# Altium schematic symbol library PowerInductors.SCHLIB: 35 symbols (part 1 of 2)
Pins are listed as number, name and electrical type; pins without a type are passive.

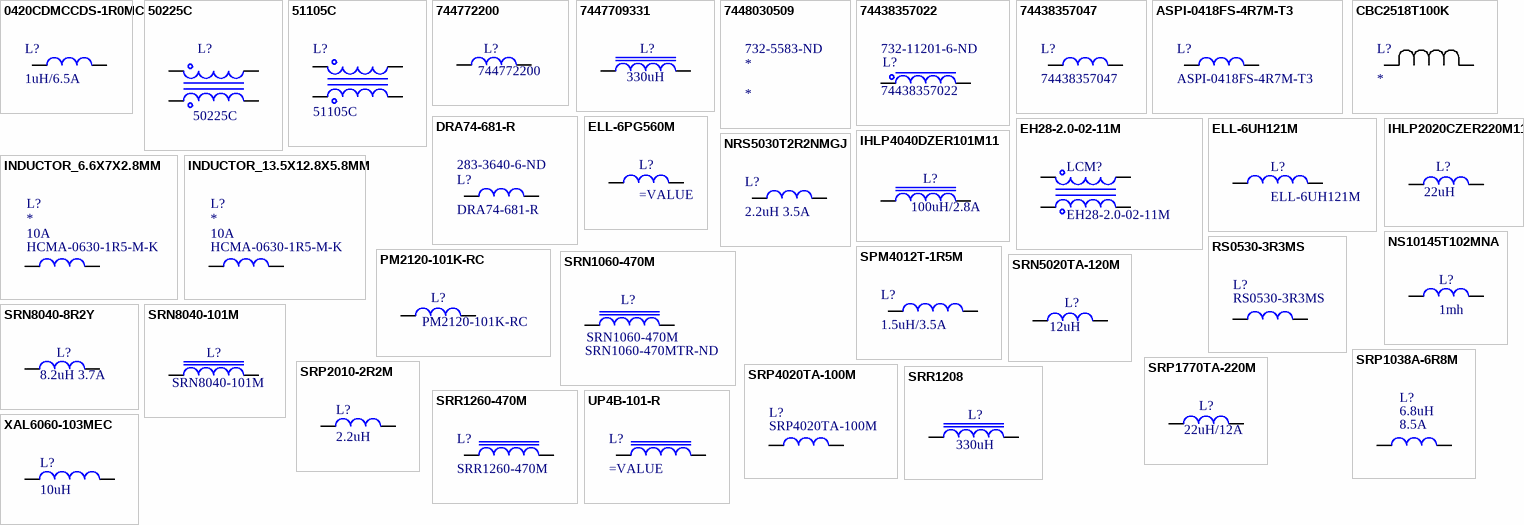
[diagram p0: symbols 0420CDMCCDS-1R0MC to XAL6060-103MEC]

## 0420CDMCCDS-1R0MC
designator L?, comment 1uH/6.5A
FIXED IND 1UH 6.5A 27 MOHM; Manufacturer 1: Sumida; Manufacturer Part Number 1: 0420CDMCCDS-1R0MC; Manufacturer: Bourns; Manufacturer Part Number: SRN1060-470M; Core Material: Metal; Saturation Current: 8A; Shielding: Shielded; DC Resistance (DCR): 27mR; Test Frequency: 100kHz; Tolerance: 20%; Material: Resin; Self Resonant Frequency: 6MHz; Max DC Current: 2.5A; Resistance: 110MR; Supplier 1: Digi-Key; RoHS: Yes; Category: Fixed Inductors; Stock 1: 23794; Pricing 1: 1=0,86000, 10=0,75700, 100=0,54050, 500=0,45402, 1000=0,36754 (USD); Mount: Surface Mount; Case/Package: Nonstandard; Min Operating Temperature: -55°C; Max Operating Temperature: 125°C; Packaging: Tape and Reel; Inductance: 1uH; Current Rating: 6.5A; Length: 0.165inch; Width: 0.165inch; Height - Seated (Max): 0.079inch; ComponentLink1URL: http://products.sumida.com/products/pdf/0420CDMCCDS1.pdf?src-supplier=Digi-Key; ComponentLink1Description: http://products.sumida.com/products/pdf/0420CDMCCDS1.pdf?src-supplier=Digi-Key; Value: 1uH/6.5A; Supplier Part Number 1: 308-2406-1-ND; Number of Pins: 2; Resistor Type: Wirewound; Termination: SMD/SMT; DC Current: 2.5A; RMS Current (Irms): 2.5A; Inductance Tolerance: 20%; Package Quantity: 600; Height: 6mm; Depth: 10.1mm; Radiation Hardening: No; Military Standard: Not; REACH SVHC: No SVHC; ComponentLink2URL: https://datasheet.ciiva.com/13142/srn1060-13142172.pdf?src-supplier=Mouser; ComponentLink2Description: https://datasheet.ciiva.com/13142/srn1060-13142172.pdf?src-supplier=Mouser; ComponentLink3URL: https://datasheet.ciiva.com/46437/1732049-46437532.pdf?src-supplier=Element14; ComponentLink3Description: https://datasheet.ciiva.com/46437/1732049-46437532.pdf?src-supplier=Element14; ComponentLink4URL: https://datasheet.ciiva.com/6700/srn1060-6700639.pdf?src-supplier=Digi-Key; ComponentLink4Description: https://datasheet.ciiva.com/6700/srn1060-6700639.pdf?src-supplier=Digi-Key; ComponentLink5URL: https://datasheet.ciiva.com/17112/70255691-17112455.pdf?src-supplier=Allied+Electronics; ComponentLink5Description: https://datasheet.ciiva.com/17112/70255691-17112455.pdf?src-supplier=Allied+Electronics; ComponentLink6URL: https://datasheet.ciiva.com/22715/1732049-22715674.pdf?src-supplier=Element14; ComponentLink6Description: https://datasheet.ciiva.com/22715/1732049-22715674.pdf?src-supplier=Element14; ComponentLink7URL: https://datasheet.ciiva.com/6700/srn1060-6700637.pdf?src-supplier=Digi-Key; ComponentLink7Description: https://datasheet.ciiva.com/6700/srn1060-6700637.pdf?src-supplier=Digi-Key
footprint 0420CDMCCDS
pins: 1, 2

## 50225C
designator L?
CHOKE, CM, 2.2MH, +50%/-30%, 0.5A; Product Range:5000 Series; SVHC:No SVHC (17-Dec-2015); Inductance:2.2mH; Impedance:-; Rated Current:500mA; Common Mode Filter Case:7mm x 5.9mm x 3.6mm; DC Current Max:500mA; DC Current Rating:500mA; DC Resistance Max:0.4ohm; Inductance Tolerance:-30% to +50%; Inductor Case Style:SMD; No. of Pins:4; Manufacturer: Murata; Number of Lines: 2; Voltage Rating: 500V; Tolerance: 50%; Max Current Rating: 500mA; DC Resistance (DCR): 400mR; Test Frequency: 100kHz; Supplier 1: Digi-Key; Manufacturer Part Number: 50225C; Stock 1: 5521; Pricing 1: 1 = 1,18000, 10 = 1,17000, 25 = 1,15000, 50 = 1,06000, 100 = 1,00000, 250 = 0,94000, 500 = 0,92000 (USD); RoHS: Yes; Mount: Surface Mount; Number of Pins: 4; Min Operating Temperature: -40°C; Max Operating Temperature: 85°C; Package Quantity: 1; Packaging: Tape and Reel; Inductance: 2.2mH; Max DC Current: 500mA; Termination: SMD/SMT; DC Current: 500mA; Current Rating: 500mA; Length: 0.366inch; Height: 3.6mm; Width: 0.232inch; Depth: 5.9mm; Radiation Hardening: No; REACH SVHC: No SVHC; Military Standard: Not; Lead Free: Lead Free; ComponentLink1URL: https://datasheet.ciiva.com/14635/0900766b80ef282e-14635096.pdf?src-supplier=Allied+Electronics; ComponentLink1Description: https://datasheet.ciiva.com/14635/0900766b80ef282e-14635096.pdf?src-supplier=Allied+Electronics; ComponentLink2URL: https://datasheet.ciiva.com/11799/0900766b80ef282e-11799738.pdf?src-supplier=RSComponents; ComponentLink2Description: https://datasheet.ciiva.com/11799/0900766b80ef282e-11799738.pdf?src-supplier=RSComponents; ComponentLink3URL: https://datasheet.ciiva.com/17279/kmp-5000c-17279461.pdf?src-supplier=Avnet+Europe; ComponentLink3Description: https://datasheet.ciiva.com/17279/kmp-5000c-17279461.pdf?src-supplier=Avnet+Europe; ComponentLink4URL: https://datasheet.ciiva.com/6214/kmp-5000c-6214678.pdf?src-supplier=Digi-Key; ComponentLink4Description: https://datasheet.ciiva.com/6214/kmp-5000c-6214678.pdf?src-supplier=Digi-Key; ComponentLink5URL: https://datasheet.ciiva.com/46390/1484733-46390742.pdf?src-supplier=Element14; ComponentLink5Description: https://datasheet.ciiva.com/46390/1484733-46390742.pdf?src-supplier=Element14; ComponentLink6URL: https://datasheet.ciiva.com/8035/1484733-8035623.pdf?src-supplier=Element14; ComponentLink6Description: https://datasheet.ciiva.com/8035/1484733-8035623.pdf?src-supplier=Element14; ComponentLink7URL: https://datasheet.ciiva.com/1127/1484733-1127192.pdf?src-supplier=Element14; ComponentLink7Description: https://datasheet.ciiva.com/1127/1484733-1127192.pdf?src-supplier=Element14; ComponentLink8URL: https://datasheet.ciiva.com/6214/kmp-5000c-6214681.pdf?src-supplier=Digi-Key; ComponentLink8Description: https://datasheet.ciiva.com/6214/kmp-5000c-6214681.pdf?src-supplier=Digi-Key; ComponentLink9URL: https://datasheet.ciiva.com/8510/kmp-5000c-8510573.pdf?src-supplier=Avnet; ComponentLink9Description: https://datasheet.ciiva.com/8510/kmp-5000c-8510573.pdf?src-supplier=Avnet; Supplier Part Number 1: 811-1184-1-ND
footprint 50225C
pins: 1, 2, 3, 4

## 51105C
designator L?
Common Mode Chokes Dual 1000uH 3.3A 0.038Ohm DCR Thru-Hole Tray; Manufacturer: Murata Power Solutions; DC Resistance (DCR): 38mΩ; Value: 1mH; Lead/Base Style: Pin; Number of Circuits: 2; Shielding: Unshielded; Supplier: DigiKey; Supplier Part Number: 811-1253-ND; Manufacturer Part Number: 51105C; RoHS: Compliant; Category: Fixed Inductors; Stock: 617; Pricing: 1=2,75, 25=2,67, 50=2,32, 100=2,22, 250=2,17, 500=2,1, 1000=2,025 (USD); China RoHS: Compliant; Contact Plating: Tin; Current Rating: 3.3A; DC Current: 3.3A; Depth: 10mm; Height: 24mm; Lead Pitch: 12.7mm; Length: 21mm; Lifecycle Status: Production; Max Current Rating: 3.3A; Max DC Current: 3.3A; Max Operating Temperature: 125°C; Military Standard: Not; Min Operating Temperature: -40°C; Mounting Technology: Radial, Through Hole; Number of Lines: 2; Pins: 4; Number of Terminals: 4; Orientation: Vertical; Radiation Hardening: No; REACH SVHC: Yes; Schedule B: 8504500000, 8504500000|8504500000|8504500000|8504500000|8504500000; Termination: Radial; Width: 10mm; ComponentLink1URL: https://datasheet.octopart.com:443/51105C-Murata-datasheet-180805887.pdf?src-supplier=IHS; ComponentLink1Description: https://datasheet.octopart.com:443/51105C-Murata-datasheet-180805887.pdf?src-supplier=IHS; ComponentLink2URL: https://datasheet.octopart.com:443/51105C-Murata-Power-Solutions-datasheet-8472960.pdf?src-supplier=Farnell; ComponentLink2Description: https://datasheet.octopart.com:443/51105C-Murata-Power-Solutions-datasheet-8472960.pdf?src-supplier=Farnell; ComponentLink3URL: https://datasheet.octopart.com:443/51105C-Murata-Power-Solutions-datasheet-13692941.pdf?src-supplier=Newark; ComponentLink3Description: https://datasheet.octopart.com:443/51105C-Murata-Power-Solutions-datasheet-13692941.pdf?src-supplier=Newark; ComponentLink4URL: http://sigma.octopart.com:80/reach_statement/Murata-company-16.pdf?src-supplier=Compliance+Statements; ComponentLink4Description: http://sigma.octopart.com:80/reach_statement/Murata-company-16.pdf?src-supplier=Compliance+Statements
footprint MURATA_51105C
pins: 1, 2, 3, 4

## 744772200
designator L?
FIXED IND 20UH 2.6A 50 MOHM TH; Manufacturer: Wurth Electronics Inc.; Type: Wirewound; Material - Core: Ferrite; Tolerance: ±10%; Shielding: Unshielded; DC Resistance (DCR): 50 mOhm Max; Supplier 1: Digi-Key; Manufacturer Part Number: 744772200; RoHS: RoHS Compliant; Category: Inductors, Coils, Chokes; Stock 1: 217; Pricing 1: 1=0.96, 10=0.909, 50=0.847, 140=0.753, 280=0.69 (USD); Packaging: Tray; Part Status: Active; Q @ Freq: -; Ratings: -; Operating Temperature: -40°C ~ 125°C; Mounting Type: Through Hole; Package / Case: Radial; Supplier Device Package: -; Size / Dimension: 0.307" Dia (7.80mm); Height - Seated (Max): 0.394" (10.00mm); ComponentLink1URL: http://katalog.we-online.de/pbs/datasheet/744772200.pdf; ComponentLink1Description: http://katalog.we-online.de/pbs/datasheet/744772200.pdf; Value: 744772200; Supplier Part Number 1: 732-3765-ND
pins: 1, 2

## 7447709331
designator L?, comment 330uH
FIXED IND 330UH 1.5A 430 MOHM; Manufacturer: Wurth Electronics Inc; Manufacturer Part Number: 7447709331; Type: Wirewound; Material - Core: Ferrite; Inductance: 330µH; Tolerance: ±20%; Current - Saturation: 1.7A; Shielding: Shielded; DC Resistance (DCR): 430 mOhm Max; Frequency - Self Resonant: 2MHz; Frequency - Test: 1kHz; Supplier 1: Digi-Key; RoHS: RoHS Compliant; Category: Inductors, Coils, Chokes; Stock 1: 1493; Pricing 1: 1=3.1, 10=3, 50=2.8, 100=2.6 (USD); Packaging: Cut Tape (CT); Part Status: Active; Current Rating: 1.5A; Q @ Freq: -; Ratings: -; Operating Temperature: -40°C ~ 125°C; Mounting Type: Surface Mount; Package / Case: Nonstandard; Size / Dimension: 0.472" L x 0.472" W (12.00mm x 12.00mm); Height - Seated (Max): 0.394" (10.00mm); ComponentLink1URL: http://katalog.we-online.de/pbs/datasheet/7447709331.pdf; ComponentLink1Description: http://katalog.we-online.de/pbs/datasheet/7447709331.pdf; Supplier Part Number 1: 732-1698-1-ND; Value: 330uH
footprint 7447709331 (0.472" L x 0.472" A (12.00 mm x 12.00 mm) H 0.394" (10.00 mm))
pins: 1, 2

## 7448030509
designator *  Supplier Part Number 1: 732-5583-ND
COMMON MODE CHOKE 9MH 5A 2LN TH; Manufacturer: Wurth Electronics Inc.; Manufacturer Part Number: 7448030509; Filter Type: Power Line; Number of Lines: 2; Inductance @ Frequency: 9mH @ 10kHz; DC Resistance (DCR) (Max): 28 mOhm; Voltage Rating - AC: 250V; Supplier 1: Digi-Key; RoHS: RoHS Compliant; Category: Filters; Stock 1: 353; Pricing 1: 1=12.1, 50=10.64, 250=9.07204, 540=8.17602 (USD); Packaging: Bulk; Part Status: Active; Impedance @ Frequency: -; Current Rating (Max): 5A; Voltage Rating - DC: -; Operating Temperature: -40°C ~ 125°C; Ratings: -; Approvals: -; Features: -; Mounting Type: Through Hole; Size / Dimension: 0.866" L x 0.532" W (22.00mm x 13.50mm); Height (Max): 0.984" (25.00mm); Package / Case: Vertical, 4 PC Pin; ComponentLink1URL: http://katalog.we-online.de/pbs/datasheet/7448030509.pdf; ComponentLink1Description: http://katalog.we-online.de/pbs/datasheet/7448030509.pdf

## 74438357022
designator L?  Supplier Part Number 1: 732-11201-6-ND
SMD POWER INDUCTOR 2.2µH Shielded Molded Inductor 5.2A 26mOhm; Manufacturer: Wurth Electronics; Core Material: Metal,Composite; Inductance: 2.2uH; Tolerance: 20%; Saturation Current: 7A; DC Resistance (DCR): 26mR; Self Resonant Frequency: 35MHz; Test Frequency: 100kHz; Supplier 1: Digi-Key; Manufacturer Part Number: 74438357022; RoHS: Yes; Category: Fixed Inductors; Stock 1: 67028; Pricing 1: 1=1,69000, 10=1,60700, 50=1,54800, 100=1,40700 (USD); Mount: Surface Mount; Case/Package: Nonstandard; Min Operating Temperature: -40°C; Max Operating Temperature: 125°C; Packaging: Cut Tape; Current Rating: 5.2A; Shielding: Shielded; RoHS Compliant: Yes; ComponentLink1URL: http://www.farnell.com/datasheets/2579569.pdf?src-supplier=Farnell; ComponentLink1Description: http://www.farnell.com/datasheets/2579569.pdf?src-supplier=Farnell; ComponentLink2URL: http://www.farnell.com/datasheets/2579569.pdf?src-supplier=Element14; ComponentLink2Description: http://www.farnell.com/datasheets/2579569.pdf?src-supplier=Element14; ComponentLink3URL: http://www.farnell.com/datasheets/2579569.pdf?src-supplier=Newark; ComponentLink3Description: http://www.farnell.com/datasheets/2579569.pdf?src-supplier=Newark; ComponentLink4URL: https://katalog.we-online.de/pbs/datasheet/74438357022.pdf?src-supplier=Digi-Key; ComponentLink4Description: https://katalog.we-online.de/pbs/datasheet/74438357022.pdf?src-supplier=Digi-Key
footprint WURTH_74438357022 (FIXED IND 2.2UH 5.2A 26 MOHM SMD-0.161" L x 0.161" W (4.10mm x 4.10mm))
pins: 1, 2

## 74438357047
designator L?
Fixed Ind 4.7UH 3.9A 44 Mohm SMD; Manufacturer: Wurth Electronics; Core Material: Metal,Composite; Tolerance: 20%; Saturation Current: 6.4A; Shielding: Shielded; DC Resistance (DCR): 44mR; Self Resonant Frequency: 24MHz; Test Frequency: 100kHz; Supplier 1: Digi-Key; Manufacturer Part Number: 74438357047; RoHS: No; Stock 1: 1809; Pricing 1: 1=1,58000, 10=1,50700, 50=1,45200, 100=1,32000 (USD); Mount: Surface Mount; Case/Package: Nonstandard; Min Operating Temperature: -40°C; Max Operating Temperature: 125°C; Packaging: Cut Tape; Inductance: 4.7uH; Current Rating: 3.9A; ComponentLink1URL: http://www.farnell.com/datasheets/2579570.pdf?src-supplier=Farnell; ComponentLink1Description: http://www.farnell.com/datasheets/2579570.pdf?src-supplier=Farnell; ComponentLink2URL: https://katalog.we-online.de/pbs/datasheet/74438357047.pdf?src-supplier=Digi-Key; ComponentLink2Description: https://katalog.we-online.de/pbs/datasheet/74438357047.pdf?src-supplier=Digi-Key; ComponentLink3URL: http://www.farnell.com/datasheets/2579570.pdf?src-supplier=Newark; ComponentLink3Description: http://www.farnell.com/datasheets/2579570.pdf?src-supplier=Newark; Value: 74438357047; Supplier Part Number 1: 732-11202-1-ND
footprint 74438357047
pins: 1, 2

## ASPI-0418FS-4R7M-T3
designator L?
FIXED IND 4.7UH 1.9A 70 MOHM SMD; Manufacturer: Abracon LLC; Type: Wirewound; Material - Core: Ferrite; Inductance: 4.7µH; Tolerance: ±20%; Current - Saturation: 2A; Shielding: Shielded; DC Resistance (DCR): 70 mOhm; Supplier 1: Digi-Key; Manufacturer Part Number: ASPI-0418FS-4R7M-T3; RoHS: RoHS Compliant; Category: Inductors, Coils, Chokes; Stock 1: 5105; Pricing 1: 1=0.54, 10=0.47, 25=0.4368, 50=0.3696, 100=0.336, 250=0.31584, 500=0.28224, 1000=0.22848 (USD); Packaging: Cut Tape (CT); Part Status: Active; Current Rating: 1.9A; Q @ Freq: -; Frequency - Self Resonant: -; Ratings: -; Operating Temperature: -25°C ~ 120°C; Mounting Type: Surface Mount; Package / Case: Nonstandard; Supplier Device Package: -; Size / Dimension: 0.157" L x 0.157" W (4.00mm x 4.00mm); Height - Seated (Max): 0.071" (1.80mm); ComponentLink1URL: http://www.abracon.com/Magnetics/new/ASPI-0418FS.pdf; ComponentLink1Description: http://www.abracon.com/Magnetics/new/ASPI-0418FS.pdf; Value: ASPI-0418FS-4R7M-T3; Supplier Part Number 1: 535-10761-1-ND
footprint ASPI-0418
pins: 1, 2

## CBC2518T100K
designator L?
Imported; Manufacturer_Part_Number: CBC2518T100K; Vendor: TAIYO YUDEN; Built_By: EMA_UL_Team; Type: DEV; C: Copyright (C) 2015 Accelerated Designs. All rights reserved; RefDes: RefDes; Value: Value
footprint IND_TAIYO_CBC251
pins: 1, 2

## DRA74-681-R
designator L?  Supplier Part Number 1: 283-3640-6-ND
Fixed Inductors 680uH 0.352A 2.86ohms; Manufacturer: Eaton Cooper; Core Material: Ferrite; Tolerance: 20%; Shielding: Shielded; Saturation Current: 352mA; Current Rating: 315mA; DC Resistance (DCR): 2.86R; Test Frequency: 100kHz; Current: 386mA; Supplier 1: Digi-Key; Manufacturer Part Number: DRA74-681-R; Stock 1: 3186; Pricing 1: 1=2.28, 10=2.105, 100=1.4732, 500=1.1926 (USD); Mount: Surface Mount; Case/Package: Nonstandard; Weight: 0.016oz; Min Operating Temperature: -40°C; Max Operating Temperature: 165°C; Packaging: Tape and Reel; Package Quantity: 1100; Inductance: 680uh; Inductance Tolerance: 20%; Max DC Current: 352mA; Termination: SMD/SMT; Composition: Wirewound; Self Resonant Frequency: 100kHz; RMS Current (Irms): 315mA; DC Current: 315mA; Military Standard: Not; Length: 7.6mm; Height: 4.35mm; Width: 7.6mm; Height - Seated (Max): 0.171inch; Depth: 7.6mm; REACH SVHC: No SVHC; ComponentLink1URL: https://datasheet.ciiva.com/6694/9190a0eb-f996-4faf-a4d6-7b76f954f32d-6694120.pdf; ComponentLink1Description: https://datasheet.ciiva.com/6694/9190a0eb-f996-4faf-a4d6-7b76f954f32d-6694120.pdf; ComponentLink2URL: https://datasheet.ciiva.com/6694/9190a0eb-f996-4faf-a4d6-7b76f954f32d-6694122.pdf; ComponentLink2Description: https://datasheet.ciiva.com/6694/9190a0eb-f996-4faf-a4d6-7b76f954f32d-6694122.pdf; ComponentLink3URL: https://datasheet.ciiva.com/8005/661909-8005002.pdf; ComponentLink3Description: https://datasheet.ciiva.com/8005/661909-8005002.pdf; ComponentLink4URL: https://datasheet.ciiva.com/6694/9190a0eb-f996-4faf-a4d6-7b76f954f32d-6694124.pdf; ComponentLink4Description: https://datasheet.ciiva.com/6694/9190a0eb-f996-4faf-a4d6-7b76f954f32d-6694124.pdf; Value: DRA74-681-R
footprint DRA74-681-R
pins: 1, 2

## EH28-2.0-02-11M
designator LCM?
COMMON MODE CHOKE 11MH 2A 2LN TH; Manufacturer: Schaffner EMC Inc.; Filter Type: Power Line; Number of Lines: 2; Inductance @ Frequency: 11mH @ 10kHz; DC Resistance (DCR) (Max): 162 mOhm (Typ); Voltage Rating - AC: 250V; Supplier 1: Digi-Key; Manufacturer Part Number: EH28-2.0-02-11M; RoHS: RoHS Compliant; Category: Filters; Stock 1: 3; Pricing 1: 1=3.16, 10=2.896, 25=2.6324, 50=2.2114, 100=1.8954, 250=1.79012, 500=1.6848, 1000=1.5795, 5000=1.5561 (USD); Packaging: Tube; Part Status: Active; Impedance @ Frequency: -; Current Rating (Max): 2A; Voltage Rating - DC: -; Operating Temperature: -25°C ~ 100°C; Ratings: -; Approvals: -; Features: -; Mounting Type: Through Hole; Size / Dimension: 1.102" L x 1.102" W (28.00mm x 28.00mm); Height (Max): 0.941" (23.90mm); Package / Case: Horizontal, 4 PC Pin; ComponentLink1URL: http://www.schaffner.com/fileadmin/media/products/pim/EV_EH%20series.pdf; ComponentLink1Description: http://www.schaffner.com/fileadmin/media/products/pim/EV_EH%20series.pdf; Value: EH28-2.0-02-11M; Supplier Part Number 1: 817-1018-ND
footprint EH28-2.0-02-11M
pins: 1, 2, 3, 4

## ELL-6PG560M
designator L?
PANASONIC   ELL6PG560M   CHOKE, POWER, 6X6X2MM, 56UH; Manufacturer Part Number: ELL-6PG560M; Inductance Tolerance: 20%; Self Resonant Frequency: 100kHz; Shielding: Shielded; Current Rating: 550mA; Saturation Current: 500mA; DC Resistance (DCR): 520mR; Supplier 1: Digi-Key; Manufacturer: Panasonic; Stock 1: 1393; Pricing 1: 1=0.82, 10=0.718, 100=0.5132, 500=0.4311 (USD); Mount: Surface Mount; Case/Package: 2424; Number of Pins: 2; Packaging: Tape and Reel; Tolerance: 20%; Package Quantity: 1000; Inductance: 56uh; Max DC Current: 500mA; Termination: SMD/SMT; Test Frequency: 100kHz; Composition: Wirewound; DC Current: 550mA; Military Standard: Not; RMS Current (Irms): 550mA; Length: 6mm; Height: 2mm; Width: 6mm; Height - Seated (Max): 0.079inch; Depth: 6.3mm; Radiation Hardening: No; REACH SVHC: No SVHC; ComponentLink1URL: https://datasheet.ciiva.com/8506/agm0000ce13-8506853.pdf; ComponentLink1Description: https://datasheet.ciiva.com/8506/agm0000ce13-8506853.pdf; ComponentLink2URL: https://datasheet.ciiva.com/6041/391793-6041595.pdf; ComponentLink2Description: https://datasheet.ciiva.com/6041/391793-6041595.pdf; ComponentLink3URL: https://datasheet.ciiva.com/22702/391793-22702972.pdf; ComponentLink3Description: https://datasheet.ciiva.com/22702/391793-22702972.pdf; ComponentLink4URL: https://datasheet.ciiva.com/6041/391793-6041597.pdf; ComponentLink4Description: https://datasheet.ciiva.com/6041/391793-6041597.pdf; ComponentLink5URL: https://datasheet.ciiva.com/11800/0900766b80beebf0-11800479.pdf; ComponentLink5Description: https://datasheet.ciiva.com/11800/0900766b80beebf0-11800479.pdf; ComponentLink6URL: https://datasheet.ciiva.com/17272/agm0000ce13-17272911.pdf; ComponentLink6Description: https://datasheet.ciiva.com/17272/agm0000ce13-17272911.pdf; Supplier Part Number 1: PCD2271DKR-ND
footprint ELL-6PG560M
pins: 1, 2

## ELL-6UH121M
designator L?
FIXED IND 120UH 580MA 480 MOHM; Manufacturer: Panasonic Electronic Components; Type: Wirewound; Inductance: 120µH; Tolerance: ±20%; Shielding: Shielded; Frequency - Test: 100kHz; Supplier 1: Digi-Key; Manufacturer Part Number: ELL-6UH121M; RoHS: RoHS Compliant; Category: Inductors, Coils, Chokes; Stock 1: 1775; Pricing 1: 1=0.81, 10=0.758, 50=0.7106, 100=0.6633, 500=0.52112 (USD); Packaging: Cut Tape (CT); Part Status: Active; Material - Core: -; Current Rating: 580mA; Current - Saturation: -; DC Resistance (DCR): 480 mOhm; Q @ Freq: -; Frequency - Self Resonant: -; Ratings: -; Operating Temperature: -; Mounting Type: Surface Mount; Package / Case: Nonstandard; Size / Dimension: 0.251" L x 0.236" W (6.40mm x 6.00mm); Height - Seated (Max): 0.197" (5.00mm); ComponentLink1URL: http://industrial.panasonic.com/cdbs/www-data/pdf/AGM0000/AGM0000CE9.pdf; ComponentLink1Description: http://industrial.panasonic.com/cdbs/www-data/pdf/AGM0000/AGM0000CE9.pdf; Value: ELL-6UH121M; Supplier Part Number 1: PCD2120CT-ND
footprint IND_ELL6UH
pins: 1, 2

## IHLP2020CZER220M11
designator L?, comment 22uH
VISHAY - IHLP2020CZER220M11 - Power Inductor (SMD), 22 µH, 1.9 A, Shielded, 1.7 A, IHLP-2020CZ-11 Series, 5.49mm x 5.18mm x 3mm; Manufacturer 1: Vishay Dale; Core Material: Metal,Composite,Ferrite; Inductance Tolerance: 20%; Self Resonant Frequency: 10MHz; Current Rating: 1.9A; Saturation Current: 1.7A; DC Resistance (DCR): 270mR; Test Frequency: 100kHz; Supplier 1: Digi-Key; Manufacturer Part Number 1: IHLP2020CZER220M11; RoHS: Yes; Category: Fixed Inductors; Stock 1: 22583; Pricing 1: 1=2,39000, 10=2,20800, 100=1,54560, 500=1,25120, 1000=1,14080 (USD); Mount: Surface Mount; Case/Package: 2020; Number of Pins: 2020; Contact Plating: Tin; Min Operating Temperature: -55°C; Max Operating Temperature: 125°C; Tolerance: 20%; Shielding: Shielded; Packaging: Tape and Reel; Package Quantity: 2000; Inductance: 22uH; Max DC Current: 1.7A; Termination: SMD/SMT; RMS Current (Irms): 1.9A; Military Standard: Not; Length: 5.74mm; Height: 3mm; Width: 5.18mm; Height - Seated (Max): 0.118inch; Depth: 5.43mm; Radiation Hardening: No; REACH SVHC: Unknown; Lead Free: Lead Free; ComponentLink1URL: https://datasheet.ciiva.com/5706/480942-5706624.pdf?src-supplier=Farnell; ComponentLink1Description: https://datasheet.ciiva.com/5706/480942-5706624.pdf?src-supplier=Farnell; ComponentLink2URL: https://datasheet.ciiva.com/3865/lp20cz11-3865987.pdf?src-supplier=Arrow; ComponentLink2Description: https://datasheet.ciiva.com/3865/lp20cz11-3865987.pdf?src-supplier=Arrow; ComponentLink3URL: https://datasheet.ciiva.com/7290/1537123-7290165.pdf?src-supplier=Newark; ComponentLink3Description: https://datasheet.ciiva.com/7290/1537123-7290165.pdf?src-supplier=Newark; ComponentLink4URL: https://datasheet.ciiva.com/23825/1750857-23825324.pdf?src-supplier=Newark; ComponentLink4Description: https://datasheet.ciiva.com/23825/1750857-23825324.pdf?src-supplier=Newark; ComponentLink5URL: https://datasheet.ciiva.com/11798/0900766b8102c930-11798351.pdf?src-supplier=RSComponents; ComponentLink5Description: https://datasheet.ciiva.com/11798/0900766b8102c930-11798351.pdf?src-supplier=RSComponents; ComponentLink6URL: https://datasheet.ciiva.com/1051/lp20cz11-1051636.pdf?src-supplier=Digi-Key; ComponentLink6Description: https://datasheet.ciiva.com/1051/lp20cz11-1051636.pdf?src-supplier=Digi-Key; ComponentLink7URL: https://datasheet.ciiva.com/1051/lp20cz11-1051637.pdf?src-supplier=Digi-Key; ComponentLink7Description: https://datasheet.ciiva.com/1051/lp20cz11-1051637.pdf?src-supplier=Digi-Key; ComponentLink8URL: https://datasheet.ciiva.com/16379/lp20cz11-16379477.pdf?src-supplier=Future+Electronics; ComponentLink8Description: https://datasheet.ciiva.com/16379/lp20cz11-16379477.pdf?src-supplier=Future+Electronics; ComponentLink9URL: https://datasheet.ciiva.com/16940/70205433-16940789.pdf?src-supplier=Allied+Electronics; ComponentLink9Description: https://datasheet.ciiva.com/16940/70205433-16940789.pdf?src-supplier=Allied+Electronics; ComponentLink10URL: https://datasheet.ciiva.com/22694/480942-22694469.pdf?src-supplier=Element14; ComponentLink10Description: https://datasheet.ciiva.com/22694/480942-22694469.pdf?src-supplier=Element14; ComponentLink11URL: https://datasheet.ciiva.com/1051/lp20cz11-1051638.pdf?src-supplier=Digi-Key; ComponentLink11Description: https://datasheet.ciiva.com/1051/lp20cz11-1051638.pdf?src-supplier=Digi-Key; ComponentLink12URL: https://datasheet.ciiva.com/3081/lp20cz11-3081959.pdf?src-supplier=Avnet; ComponentLink12Description: https://datasheet.ciiva.com/3081/lp20cz11-3081959.pdf?src-supplier=Avnet; ComponentLink13URL: https://datasheet.ciiva.com/17269/lp20cz11-17269544.pdf?src-supplier=Avnet+Europe; ComponentLink13Description: https://datasheet.ciiva.com/17269/lp20cz11-17269544.pdf?src-supplier=Avnet+Europe; Value: 22uH; Supplier Part Number 1: 541-1243-1-ND
footprint IHLP2020CZ
pins: 1, 2

## IHLP4040DZER101M11
designator L?, comment 100uH/2.8A
FIXED IND 100UH 2.5A 270 MOHM; Manufacturer: Vishay Dale; Manufacturer Part Number: IHLP4040DZER101M11; Type: Molded; Tolerance: ±20%; Shielding: Shielded; DC Resistance (DCR): 270 mOhm Max; Supplier 1: Digi-Key; RoHS: RoHS Compliant; Category: Inductors, Coils, Chokes; Stock 1: 6022; Pricing 1: 1=2.92, 10=2.691, 100=1.8837 (USD); Packaging: Cut Tape (CT); Part Status: Active; Material - Core: -; Q @ Freq: -; Ratings: -; Operating Temperature: -55°C ~ 125°C; Mounting Type: Surface Mount; Package / Case: Nonstandard; Supplier Device Package: -; Size / Dimension: 0.430" L x 0.405" W (10.92mm x 10.30mm); Height - Seated (Max): 0.157" (4.00mm); ComponentLink1URL: http://www.vishay.com/docs/34192/lp40dz11.pdf; ComponentLink1Description: http://www.vishay.com/docs/34192/lp40dz11.pdf; Value: 100uH/2.8A; Supplier Part Number 1: 541-1310-1-ND
footprint IHLP4040DZ
pins: 1, 2

## INDUCTOR_6.6X7X2.8MM
designator L?  Manufacturer Part Number: HCMA-0630-1R5-M-K  Nominal Current: 10A
Manufacturer: YOUCHI; LCSC: C54431698; ComponentLink1Description: LCSC Link; ComponentLink1URL: *; Value: *
footprint INDUCTOR_6.6X7X2.8mm
pins: 1, 2

## INDUCTOR_13.5X12.8X5.8MM
designator L?  Manufacturer Part Number: HCMA-0630-1R5-M-K  Nominal Current: 10A
Manufacturer: YOUCHI; LCSC: C54431698; ComponentLink1Description: LCSC Link; ComponentLink1URL: *; Value: *
footprint INDUCTOR_13.5X12.8X5.8mm
pins: 1, 2

## NRS5030T2R2NMGJ
designator L?, comment 2.2uH 3.5A
Fixed Inductors 5030 2.2uH 29.9mOhms +/-30%Tol 3500mA; Manufacturer: Taiyo Yuden; Manufacturer Part Number: NRS5030T2R2NMGJ; Core Material: Ferrite; Tolerance: 30%; Self Resonant Frequency: 46MHz; Shielding: Shielded; Saturation Current: 4.2A; DC Resistance (DCR): 23mR; Test Frequency: 100kHz; Supplier 1: Digi-Key; Stock 1: 5730; Pricing 1: 1=0,38000, 10=0,34000, 100=0,23400 (USD); RoHS: Yes; Mount: Surface Mount; Case/Package: 5030; Min Operating Temperature: -25°C; Max Operating Temperature: 120°C; Packaging: Tape and Reel; Package Quantity: 500; Current Rating: 3.5A; Inductance: 2.2uH; Max DC Current: 4.2A; Termination: SMD/SMT; Length: 0.193inch; Height: 3.1mm; Width: 4.9mm; Height - Seated (Max): 0.122inch; Depth: 4.9mm; Radiation Hardening: No; Halogen Free: Halogen Free; ComponentLink1URL: https://datasheet.ciiva.com/29884/wound04-e-29884108.pdf?src-supplier=Avnet; ComponentLink1Description: https://datasheet.ciiva.com/29884/wound04-e-29884108.pdf?src-supplier=Avnet; ComponentLink2URL: https://datasheet.ciiva.com/48682/wound04-e-48682412.pdf?src-supplier=Avnet; ComponentLink2Description: https://datasheet.ciiva.com/48682/wound04-e-48682412.pdf?src-supplier=Avnet; ComponentLink3URL: https://datasheet.ciiva.com/18686/wound04-e-18686397.pdf?src-supplier=Digi-Key; ComponentLink3Description: https://datasheet.ciiva.com/18686/wound04-e-18686397.pdf?src-supplier=Digi-Key; ComponentLink4URL: https://datasheet.ciiva.com/18686/wound04-e-18686398.pdf?src-supplier=Digi-Key; ComponentLink4Description: https://datasheet.ciiva.com/18686/wound04-e-18686398.pdf?src-supplier=Digi-Key; ComponentLink5URL: https://datasheet.ciiva.com/18686/wound04-e-18686399.pdf?src-supplier=Digi-Key; ComponentLink5Description: https://datasheet.ciiva.com/18686/wound04-e-18686399.pdf?src-supplier=Digi-Key; Value: 2.2uH 3.5A; Supplier Part Number 1: 587-3457-1-ND
footprint NRS5030T2R2NMGJ
pins: 1, 2

## NS10145T102MNA
designator L?, comment 1mh
FIXED IND 1MH 320MA 3.096 OHM; Manufacturer: Taiyo Yuden; Manufacturer Part Number: NS10145T102MNA; Core Material: Ferrite; Inductance Tolerance: 20%; Saturation Current: 410mA; Shielding: Shielded; Self Resonant Frequency: 1.7MHz; DC Resistance (DCR): 3.096R; Test Frequency: 100kHz; Supplier 1: Digi-Key; Supplier Part Number 1: 587-3117-1-ND; Stock 1: 513; Pricing 1: 1=0.94, 10=0.875, 100=0.6324 (USD); Mount: Surface Mount; Case/Package: Nonstandard; Min Operating Temperature: -40°C; Max Operating Temperature: 125°C; Packaging: Tape and Reel; Tolerance: 20%; Package Quantity: 500; Current Rating: 320mA; Composition: Wirewound; Inductance: 1mh; Max DC Current: 410mA; Termination: SMD/SMT; RMS Current (Irms): 320mA; Length: 0.398inch; Height: 4.5mm; Width: 0.398inch; Height - Seated (Max): 0.191inch; Depth: 10.4mm; Radiation Hardening: No; REACH SVHC: Unknown; Halogen Free: Halogen Free; ComponentLink1URL: https://datasheet.ciiva.com/22710/1918812-22710375.pdf; ComponentLink1Description: https://datasheet.ciiva.com/22710/1918812-22710375.pdf; ComponentLink2URL: https://datasheet.ciiva.com/3079/ns10145t102mna-ss-3079179.pdf; ComponentLink2Description: https://datasheet.ciiva.com/3079/ns10145t102mna-ss-3079179.pdf
footprint NS10145T102MNA (FIXED IND 1MH 320MA 3.096 OHM)
pins: 1, 2

## PM2120-101K-RC
designator L?
FIXED IND 100UH 6.1A 35 MOHM SMD; Manufacturer: Bourns; Core Material: Ferrite; Current Rating: 6.1; Tolerance: 10; Shielding: Unshielded; Inductance: 100; DC Resistance (DCR): 35; Test Frequency: 1; Supplier 1: Digi-Key; Manufacturer Part Number: PM2120-101K-RC; Stock 1: 477; Pricing 1: 1=2.55, 10=2.338, 100=1.53, 500=1.36, 1000=1.33 (USD); Mount: Surface Mount; Case/Package: Nonstandard; Number of Pins: 2; Min Operating Temperature: -55; Max Operating Temperature: 105; Package Quantity: 77; Packaging: Bulk; Termination: SMD/SMT; Inductance Tolerance: 10; Max DC Current: 6.1; DC Current: 6.1; Military Standard: Not; RMS Current (Irms): 6.1; Length: 30.5; Height: 22.1; Depth: 25.4; Width: 1; Height - Seated (Max): 0.87; Lead Pitch: 22.9; Radiation Hardening: No; REACH SVHC: No SVHC; Lead Free: Lead Free; ComponentLink1URL: https://datasheet.ciiva.com/1052/pm2120-series-1052818.pdf; ComponentLink1Description: https://datasheet.ciiva.com/1052/pm2120-series-1052818.pdf; ComponentLink2URL: https://datasheet.ciiva.com/15160/getdatasheetpartid-92649-15160309.pdf; ComponentLink2Description: https://datasheet.ciiva.com/15160/getdatasheetpartid-92649-15160309.pdf; ComponentLink3URL: https://datasheet.ciiva.com/8003/pm2120-series-8003767.pdf; ComponentLink3Description: https://datasheet.ciiva.com/8003/pm2120-series-8003767.pdf; ComponentLink4URL: https://datasheet.ciiva.com/11801/0900766b80fa5805-11801946.pdf; ComponentLink4Description: https://datasheet.ciiva.com/11801/0900766b80fa5805-11801946.pdf; ComponentLink5URL: https://datasheet.ciiva.com/7838/1695381-7838875.pdf; ComponentLink5Description: https://datasheet.ciiva.com/7838/1695381-7838875.pdf; ComponentLink6URL: https://datasheet.ciiva.com/8517/pm2120-series-8517228.pdf; ComponentLink6Description: https://datasheet.ciiva.com/8517/pm2120-series-8517228.pdf; ComponentLink7URL: https://datasheet.ciiva.com/30052/pm2120-series-30052719.pdf; ComponentLink7Description: https://datasheet.ciiva.com/30052/pm2120-series-30052719.pdf; Value: PM2120-101K-RC; Supplier Part Number 1: M8793-ND
footprint PM2120-101K-RC
pins: 1, 2

## RS0530-3R3MS
designator L?
Manufacturer Part Number: RS0530-3R3MS; LCSC: C32712971; ComponentLink1Description: LCSC Link; ComponentLink1URL: https://www.lcsc.com/product-detail/C32712971.html
footprint INDP5452X30N (Precision Wire Wound Inductor, 2-Leads, Body 5,40x5,20mm, IPC Medium Density)
pins: 1, 2

## SPM4012T-1R5M
designator L?, comment 1.5uH/3.5A
FIXED IND 1.5UH 3.5A 70 MOHM SMD; Manufacturer: TDK Corporation; Manufacturer Part Number: SPM4012T-1R5M; Type: Wirewound; Material - Core: Metal; Tolerance: ±20%; Shielding: Shielded; DC Resistance (DCR): 70 mOhm Max; Supplier 1: Digi-Key; RoHS: RoHS Compliant; Category: Inductors, Coils, Chokes; Stock 1: 4388; Pricing 1: 1=1.51, 10=1.405, 100=1.0161, 500=0.77832 (USD); Packaging: Cut Tape (CT); Part Status: Active; Q @ Freq: -; Ratings: -; Operating Temperature: -40°C ~ 125°C; Mounting Type: Surface Mount; Package / Case: Nonstandard; Supplier Device Package: -; Size / Dimension: 0.173" L x 0.161" W (4.40mm x 4.10mm); Height - Seated (Max): 0.047" (1.20mm); ComponentLink1URL: https://product.tdk.com/info/en/documents/catalog/inductor_commercial_power_spm4012_en.pdf; ComponentLink1Description: https://product.tdk.com/info/en/documents/catalog/inductor_commercial_power_spm4012_en.pdf; Supplier Part Number 1: 445-15778-1-ND; Value: 1.5uH/3.5A
footprint SPM4012T-1R5M
pins: 1, 2

## SRN1060-470M
designator L?  Supplier Part Number 1: SRN1060-470MTR-ND
FIXED IND 47UH 2.5A 110 MOHM SMD; Manufacturer: Bourns; Material: Resin; Core Material: Ferrite; DC Resistance (DCR): 110mR; Self Resonant Frequency: 6MHz; Test Frequency: 100kHz; Inductance Tolerance: 20%; Shielding: Shielded; Saturation Current: 2.3A; Supplier 1: Digi-Key; Manufacturer Part Number: SRN1060-470M; Stock 1: 6000; Pricing 1: 600 = 0,42000, 1200 = 0,34000, 3000 = 0,32000, 6000 = 0,31000, 15000 = 0,30000, 30000 = 0,29000, 60000 = 0,28000 (USD); RoHS: Yes; Mount: Surface Mount; Case/Package: Nonstandard; Number of Pins: 2; Min Operating Temperature: -40°C; Max Operating Temperature: 125°C; Resistor Type: Wirewound; Max DC Current: 2.5A; Termination: SMD/SMT; DC Current: 2.5A; RMS Current (Irms): 2.5A; Resistance: 110MR; Packaging: Cut Tape; Package Quantity: 600; Current Rating: 2.5A; Tolerance: 20%; Inductance: 47uH; Length: 10mm; Height: 6mm; Height - Seated (Max): 0.236inch; Depth: 10.1mm; Width: 9.8mm; Radiation Hardening: No; Military Standard: Not; REACH SVHC: No SVHC; ComponentLink1URL: https://datasheet.ciiva.com/13142/srn1060-13142172.pdf?src-supplier=Mouser; ComponentLink1Description: https://datasheet.ciiva.com/13142/srn1060-13142172.pdf?src-supplier=Mouser; ComponentLink2URL: https://datasheet.ciiva.com/46437/1732049-46437532.pdf?src-supplier=Element14; ComponentLink2Description: https://datasheet.ciiva.com/46437/1732049-46437532.pdf?src-supplier=Element14; ComponentLink3URL: https://datasheet.ciiva.com/6700/srn1060-6700639.pdf?src-supplier=Digi-Key; ComponentLink3Description: https://datasheet.ciiva.com/6700/srn1060-6700639.pdf?src-supplier=Digi-Key; ComponentLink4URL: https://datasheet.ciiva.com/17112/70255691-17112455.pdf?src-supplier=Allied+Electronics; ComponentLink4Description: https://datasheet.ciiva.com/17112/70255691-17112455.pdf?src-supplier=Allied+Electronics; ComponentLink5URL: https://datasheet.ciiva.com/22715/1732049-22715674.pdf?src-supplier=Element14; ComponentLink5Description: https://datasheet.ciiva.com/22715/1732049-22715674.pdf?src-supplier=Element14; ComponentLink6URL: https://datasheet.ciiva.com/6700/srn1060-6700637.pdf?src-supplier=Digi-Key; ComponentLink6Description: https://datasheet.ciiva.com/6700/srn1060-6700637.pdf?src-supplier=Digi-Key
footprint SRN1060-470M
pins: 1, 2

## SRN5020TA-120M
designator L?, comment 12uH
FIXED IND 12UH 1.4A 135 MOHM SMD; Manufacturer 1: Bourns; Manufacturer Part Number 1: SRN5020TA-120M; Supplier 1: Digi-Key; Stock 1: 2215; Pricing 1: 1=0,55000, 10=0,48300, 100=0,34500, 500=0,28980, 1000=0,23460 (USD); RoHS: No; ComponentLink1URL: https://www.bourns.com/docs/Product-Datasheets/SRN5020TA.pdf?src-supplier=Digi-Key; ComponentLink1Description: https://www.bourns.com/docs/Product-Datasheets/SRN5020TA.pdf?src-supplier=Digi-Key; Supplier Part Number 1: SRN5020TA-120MCT-ND; Value: 12uH
footprint SRN5020TA
pins: 1, 2

## SRN8040-8R2Y
designator L?, comment 8.2uH 3.7A
FIXED IND 8.2UH 3.7A 45 MOHM SMD; Manufacturer 1: Bourns; Manufacturer Part Number 1: SRN8040-8R2Y; Core Material: Ferrite; Material: Steel; Inductance Tolerance: 30%; Shielding: Shielded; Saturation Current: 4A; DC Resistance (DCR): 45mR; Self Resonant Frequency: 20MHz; Test Frequency: 100kHz; Supplier 1: Digi-Key; RoHS: Yes; Category: Fixed Inductors; Stock 1: 7513; Pricing 1: 1=0,74000, 10=0,64400, 100=0,46000, 500=0,38640 (USD); Mount: Surface Mount; Case/Package: Nonstandard; Number of Pins: 2; Weight: 0.028607oz; Min Operating Temperature: -40°C; Max Operating Temperature: 125°C; Tolerance: 30%; Packaging: Tape and Reel; Package Quantity: 1000; Current Rating: 3.7A; Inductance: 8.2uH; Composition: Wirewound; Max DC Current: 3.7A; Termination: SMD/SMT; DC Current: 3.7A; Military Standard: Not; Length: 8mm; Height: 4mm; Width: 8mm; Height - Seated (Max): 0.157inch; Depth: 8.3mm; REACH SVHC: No SVHC; ComponentLink1URL: https://datasheet.ciiva.com/11802/0900766b80fe1f3f-11802622.pdf?src-supplier=RSComponents; ComponentLink1Description: https://datasheet.ciiva.com/11802/0900766b80fe1f3f-11802622.pdf?src-supplier=RSComponents; ComponentLink2URL: https://datasheet.ciiva.com/17112/70231668-17112534.pdf?src-supplier=Allied+Electronics; ComponentLink2Description: https://datasheet.ciiva.com/17112/70231668-17112534.pdf?src-supplier=Allied+Electronics; ComponentLink3URL: https://datasheet.ciiva.com/1049/srn8040-1049465.pdf?src-supplier=Digi-Key; ComponentLink3Description: https://datasheet.ciiva.com/1049/srn8040-1049465.pdf?src-supplier=Digi-Key; ComponentLink4URL: https://datasheet.ciiva.com/1049/srn8040-1049466.pdf?src-supplier=Digi-Key; ComponentLink4Description: https://datasheet.ciiva.com/1049/srn8040-1049466.pdf?src-supplier=Digi-Key; ComponentLink5URL: https://datasheet.ciiva.com/1049/srn8040-1049467.pdf?src-supplier=Digi-Key; ComponentLink5Description: https://datasheet.ciiva.com/1049/srn8040-1049467.pdf?src-supplier=Digi-Key; ComponentLink6URL: https://datasheet.ciiva.com/17284/srn8040-17284795.pdf?src-supplier=Avnet+Europe; ComponentLink6Description: https://datasheet.ciiva.com/17284/srn8040-17284795.pdf?src-supplier=Avnet+Europe; ComponentLink7URL: https://datasheet.ciiva.com/5986/1733536-5986220.pdf?src-supplier=Farnell; ComponentLink7Description: https://datasheet.ciiva.com/5986/1733536-5986220.pdf?src-supplier=Farnell; ComponentLink8URL: https://datasheet.ciiva.com/7848/srn8040-7848060.pdf?src-supplier=Element14; ComponentLink8Description: https://datasheet.ciiva.com/7848/srn8040-7848060.pdf?src-supplier=Element14; Value: 8.2uH 3.7A; Supplier Part Number 1: SRN8040-8R2YCT-ND
footprint SRN8040-101M (0.315" L x 0.315" A (8.00 mm x 8.00 mm) / 0.157" (4.00 mm)H)
pins: 1, 2

## SRN8040-101M
designator L?
FIXED IND 100UH 1A 400 MOHM SMD; Manufacturer: Bourns Inc.; Type: Wirewound; Material - Core: Ferrite; Inductance: 100µH; Tolerance: ±20%; Shielding: Shielded; DC Resistance (DCR): 400 mOhm Max; Q @ Freq: 10 @ 796kHz; Frequency - Self Resonant: 6MHz; Frequency - Test: 100kHz; Supplier 1: Digi-Key; Supplier Part Number 1: SRN8040-101MCT-ND; Manufacturer Part Number: SRN8040-101M; RoHS: RoHS Compliant; Category: Inductors, Coils, Chokes; Stock 1: 10401; Pricing 1: 1=0.58, 10=0.512, 25=0.48, 50=0.416, 100=0.384, 250=0.3648, 500=0.3328 (USD); Packaging: Cut Tape (CT); Current Rating: 1A; Current - Saturation: 1A; Ratings: -; Operating Temperature: -40°C ~ 125°C; Mounting Type: Surface Mount; Package / Case: Nonstandard; Size / Dimension: 0.315" L x 0.315" W (8.00mm x 8.00mm); Height - Seated (Max): 0.157" (4.00mm); ComponentLink1URL: http://www.bourns.com/docs/Product-Datasheets/SRN8040.pdf; ComponentLink1Description: http://www.bourns.com/docs/Product-Datasheets/SRN8040.pdf; Value: *
footprint SRN8040-101M (0.315" L x 0.315" A (8.00 mm x 8.00 mm) / 0.157" (4.00 mm)H)
pins: 1, 2

## SRP1038A-6R8M
designator L?, comment 6.8uH  Max DC Current: 8.5A
Inductor Power Shielded Wirewound 6.8uH 20% 100KHz 20Q-Factor Carbonyl Powder 8.5A 23.3mOhm DCR 4040 Automotive T/R; Manufacturer: Bourns; Manufacturer Part Number: SRP1038A-6R8M; Saturation Current: 13.5A; DC Resistance (DCR): 23.3mR; Self Resonant Frequency: 13MHz; Supplier: Digikey; Supplier Part Number: SRP1038A-6R8MCT-ND; RoHS: Yes; Category: Fixed Inductors; Stock: 5857; Pricing: 1=1,14, 10=0,939, 25=0,8684, 50=0,8188, 100=0,772, 250=0,71424 (USD); Mounting Technology: Surface Mount; Case/Package: Nonstandard; Core Material: Carbonyl Powder; Min Operating Temperature: -40°C; Max Operating Temperature: 150°C; Inductance Tolerance: 20%; Packaging: Cut Tape; Tolerance: 20%; Value: 6.8uH; Shielding: Shielded; Test Frequency: 100kHz; RMS Current (Irms): 8.5A; Termination: SMD/SMT; DC Current: 8.5A; Series: SRP1038A; Length: 11.5mm; Height: 3.8mm; Depth: 10.3mm; Ratings: AEC-Q200; Reach SVHC Compliant: No; Military Standard: Not; RoHS Compliant: Yes; ComponentLink1URL: https://datasheet.ciiva.com/48685/srp1038a-48685212.pdf?src-supplier=Avnet; ComponentLink1Description: https://datasheet.ciiva.com/48685/srp1038a-48685212.pdf?src-supplier=Avnet; ComponentLink2URL: https://datasheet.ciiva.com/48685/srp1038a-48685213.pdf?src-supplier=Avnet; ComponentLink2Description: https://datasheet.ciiva.com/48685/srp1038a-48685213.pdf?src-supplier=Avnet; ComponentLink3URL: https://datasheet.ciiva.com/46395/1828822-46395305.pdf?src-supplier=Element14; ComponentLink3Description: https://datasheet.ciiva.com/46395/1828822-46395305.pdf?src-supplier=Element14
footprint BOURNS_SRP1038A-6R8M (0.433" L x 0.394" W (11.00mm x 10.00mm), 0.157" (4.00mm) HEIGHT)
pins: 1, 2

## SRP1770TA-220M
designator L?, comment 22uH/12A
BOURNS - SRP1770TA-220M - INDUCTOR, SHIELDED, 22UH, 12A, 20%; Core Material: Carbonyl Powder; Saturation Current: 18A; DC Resistance (DCR): 26.5mR; Self Resonant Frequency: 5MHz; Test Frequency: 100kHz; Supplier 1: Digi-Key; Manufacturer 1: Bourns; Manufacturer Part Number 1: SRP1770TA-220M; RoHS: Yes; Category: Fixed Inductors; Stock 1: 799; Pricing 1: 1=4,31000, 10=3,95300, 100=2,58750 (USD); Mount: Surface Mount; Case/Package: Nonstandard; Min Operating Temperature: -40°C; Max Operating Temperature: 150°C; Packaging: Cut Tape; Composition: Wirewound; Inductance: 22uH; Current Rating: 12A; Shielding: Shielded; RMS Current (Irms): 12A; Tolerance: 20%; Inductance Tolerance: 20%; Length: 0.666inch; Width: 0.666inch; Height - Seated (Max): 0.276inch; Ratings: AEC-Q200; REACH SVHC: No SVHC; ComponentLink1URL: http://www.farnell.com/datasheets/2647420.pdf?src-supplier=Farnell; ComponentLink1Description: http://www.farnell.com/datasheets/2647420.pdf?src-supplier=Farnell; ComponentLink2URL: https://www.bourns.com/docs/Product-Datasheets/SRP1770TA.pdf?src-supplier=Digi-Key; ComponentLink2Description: https://www.bourns.com/docs/Product-Datasheets/SRP1770TA.pdf?src-supplier=Digi-Key; ComponentLink3URL: http://www.farnell.com/datasheets/1955470.pdf?src-supplier=Element14; ComponentLink3Description: http://www.farnell.com/datasheets/1955470.pdf?src-supplier=Element14; ComponentLink4URL: http://www.bourns.com/docs/Product-Datasheets/SRP1770TA.pdf?src-supplier=Digi-Key; ComponentLink4Description: http://www.bourns.com/docs/Product-Datasheets/SRP1770TA.pdf?src-supplier=Digi-Key; ComponentLink5URL: http://www.farnell.com/datasheets/2647420.pdf?src-supplier=Newark; ComponentLink5Description: http://www.farnell.com/datasheets/2647420.pdf?src-supplier=Newark; Value: 22uH/12A; Supplier Part Number 1: SRP1770TA-220MCT-ND
footprint SRP1770TA
pins: 1, 2

## SRP2010-2R2M
designator L?, comment 2.2uH
BOURNS         SRP2010-2R2M            Surface Mount Power Inductor, SRP2010 Series, 2.2 H,  20%, Wirewound, 0.168 ohm, 1.5 A; Core Material: Ferrite; Current Rating: 1.7A; Saturation Current: 1.9A; Shielding: Shielded; DC Resistance (DCR): 168mR; Test Frequency: 1MHz; RMS Current (Irms): 1.5A; Max DC Current: 2.2A; Supplier 1: Digi-Key; Manufacturer: Bourns; Manufacturer Part Number: SRP2010-2R2M; Stock 1: 32179; Pricing 1: 1 = 0,55000, 10 = 0,48300, 100 = 0,34500, 500 = 0,28980, 1000 = 0,23460 (USD); RoHS: Yes; Mount: Surface Mount; Case/Package: 0806; Case Code (Metric): 2010; Case Code (Imperial): 0806; Min Operating Temperature: -40°C; Max Operating Temperature: 125°C; Tolerance: 20%; Packaging: Tape and Reel; Inductance Tolerance: 20%; Composition: Wirewound; Inductance: 2.2uH; Termination: SMD/SMT; Package Quantity: 3000; Length: 0.079inch; Height: 1mm; Width: 1.6mm; Height - Seated (Max): 0.039inch; Depth: 1.6mm; REACH SVHC: No SVHC; ComponentLink1URL: https://datasheet.ciiva.com/46437/1828827-46437464.pdf?src-supplier=Element14; ComponentLink1Description: https://datasheet.ciiva.com/46437/1828827-46437464.pdf?src-supplier=Element14; ComponentLink2URL: https://datasheet.ciiva.com/48684/srp2010-48684744.pdf?src-supplier=Avnet; ComponentLink2Description: https://datasheet.ciiva.com/48684/srp2010-48684744.pdf?src-supplier=Avnet; Value: 2.2uH; Supplier Part Number 1: SRP2010-2R2MCT-ND
footprint SRP2010-2R2M
footprint INDP2016X10N (Precision Wire Wound Inductor, 2-Leads, Body 2,00x1,60mm, IPC Medium Density)
pins: 1, 2

## SRP4020TA-100M
designator L?
Ind Power Shielded Wirewound 10uH 20% 100KHz Carbonyl Powder 1.8A T/R; Manufacturer: Bourns; Saturation Current: 2.3A; DC Resistance (DCR): 243mR; Self Resonant Frequency: 19MHz; Supplier: Digikey; Supplier Part Number: SRP4020TA-100MCT-ND; Manufacturer Part Number: SRP4020TA-100M; RoHS: Yes; Category: Fixed Inductors; Stock: 84836; Pricing: 1=1,21, 10=0,941, 25=0,8504, 50=0,788, 100=0,73, 250=0,6596, 500=0,61072, 1000=0,56529 (USD); Mounting Technology: Surface Mount; Case/Package: SMD/SMT; Pins: 2; Core Material: Carbonyl Powder; Min Operating Temperature: -40°C; Max Operating Temperature: 150°C; Tolerance: 20%; Packaging: Cut Tape; Value: 10uH; Current Rating: 1.8A; Shielding: Shielded; Test Frequency: 100kHz; Max DC Current: 1.8A; Termination: SMD/SMT; RMS Current (Irms): 1.8A; Inductance Tolerance: 20%; Series: SRP4020TA; Length: 0.175inch; Width: 0.16inch; Height: 1.8mm; Height - Seated (Max): 0.079inch; Depth: 4.06mm; Ratings: AEC-Q200; Reach SVHC Compliant: No; RoHS Compliant: Yes; ComponentLink1URL: https://media.digikey.com/pdf/Data%20Sheets/Bourns%20PDFs/SRP4012TA_SRP4020TA_Series_Bltn.pdf?src-supplier=Digikey; ComponentLink1Description: https://media.digikey.com/pdf/Data%20Sheets/Bourns%20PDFs/SRP4012TA_SRP4020TA_Series_Bltn.pdf?src-supplier=Digikey; ComponentLink2URL: http://www.farnell.com/datasheets/2059708.pdf?src-supplier=Farnell; ComponentLink2Description: http://www.farnell.com/datasheets/2059708.pdf?src-supplier=Farnell; ComponentLink3URL: https://www.bourns.com/docs/Product-Datasheets/SRP4020TA.pdf?src-supplier=Digikey; ComponentLink3Description: https://www.bourns.com/docs/Product-Datasheets/SRP4020TA.pdf?src-supplier=Digikey; ComponentLink4URL: http://www.bourns.com/data/global/pdfs/SRP4020TA.pdf?src-supplier=Avnet; ComponentLink4Description: http://www.bourns.com/data/global/pdfs/SRP4020TA.pdf?src-supplier=Avnet
footprint BOURNS_SRP4020TA-100M (0.175" L x 0.160" W (4.45mm x 4.06mm), 2 SMD)
pins: 1, 2

## SRR1208
designator L?, comment 330uH
Fixed Inductor 330UH 1.5A 430mOhm; Manuf1: Wurth Electronics Inc; Manuf1Partnumber: 7447709331; Populated: Yes; Value: 330uH; ROHS: Yes; HelpURL: *; LifeCycle: Checked; Supplier 1: Digi-Key; Supplier 2: Newark; Supplier Part Number 1: 732-1698-1-ND; Supplier Part Number 2: 88T7078
footprint SRR1208
pins: 1, 2

## SRR1260-470M
designator L?
FIXED IND 47UH 2.6A 86 MOHM SMD; Manufacturer: Bourns Inc.; Type: Wirewound; Material - Core: Ferrite; Inductance: 47µH; Tolerance: ±20%; Current - Saturation: 2.5A; Shielding: Shielded; DC Resistance (DCR): 86 mOhm Max; Q @ Freq: 22 @ 2.52MHz; Frequency - Self Resonant: 7.63MHz; Supplier 1: Digi-Key; Manufacturer Part Number: SRR1260-470M; RoHS: RoHS Compliant; Category: Inductors, Coils, Chokes; Stock 1: 2577; Pricing 1: 1=0.97, 10=0.903, 25=0.8332, 50=0.6944, 100=0.6527, 250=0.58328 (USD); Packaging: Cut Tape (CT); Part Status: Active; Current Rating: 2.6A; Ratings: -; Operating Temperature: -40°C ~ 125°C; Mounting Type: Surface Mount; Package / Case: Nonstandard; Supplier Device Package: -; Size / Dimension: 0.492" L x 0.492" W (12.50mm x 12.50mm); Height - Seated (Max): 0.256" (6.50mm); ComponentLink1URL: http://www.bourns.com/docs/Product-Datasheets/SRR1260.pdf; ComponentLink1Description: http://www.bourns.com/docs/Product-Datasheets/SRR1260.pdf; Value: SRR1260-470M; Supplier Part Number 1: SRR1260-470MCT-ND
footprint SRR1260
pins: 1, 2

## UP4B-101-R
designator L?
INDUCTOR POWER 100UH 2A SMD; Manufacturer: Eaton Bussmann; Manufacturer Part Number: UP4B-101-R; Core Material: Ferrite; Tolerance: 20%; DC Resistance (DCR): 170mR; Shielding: Unshielded; Saturation Current: 3.6A; Test Frequency: 100kHz; Supplier 1: Digi-Key; Stock 1: 638; Pricing 1: 1=3.03, 10=2.78, 100=1.8195 (USD); Mount: Surface Mount; Case/Package: 100; Number of Pins: 2; Weight: 0.224oz; Min Operating Temperature: -40°C; Max Operating Temperature: 85°C; Inductance: 100uh; Packaging: Tape and Reel; Current Rating: 2A; Max DC Current: 2A; DC Current: 2A; Military Standard: Not; Package Quantity: 275; Termination: SMD/SMT; Length: 22.1mm; Height: 7.87mm; Depth: 15mm; Width: 0.59inch; Radiation Hardening: No; Lead Free: Lead Free; ComponentLink1URL: https://datasheet.ciiva.com/30154/f1663d7a6f324829ad99e80a35a7005b-30154296.pdf; ComponentLink1Description: https://datasheet.ciiva.com/30154/f1663d7a6f324829ad99e80a35a7005b-30154296.pdf; Supplier Part Number 1: 513-1093-6-ND
footprint UP4B
pins: 1, 2